# Altium integrated library BLM18PG330SN1D.IntLib: 1 symbol
Pins are listed as number, name and electrical type; pins without a type are passive.

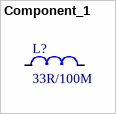
[diagram p0: symbol Component_1]

## Component_1
designator L?, comment 33R/100M
Buying URL:: https://uk.farnell.com/murata/blm18pg330sn1d/ferrite-bead-0-025ohm-3a-0603/dp/1515742?st=Ferrite%2033R/100MHz,%2025%25,%203A,%2025mR,%200603
footprint *FB_BLM18PG121SN1D
pins: 1, 2